# EAGLE library part TPS54386 (library alvie)
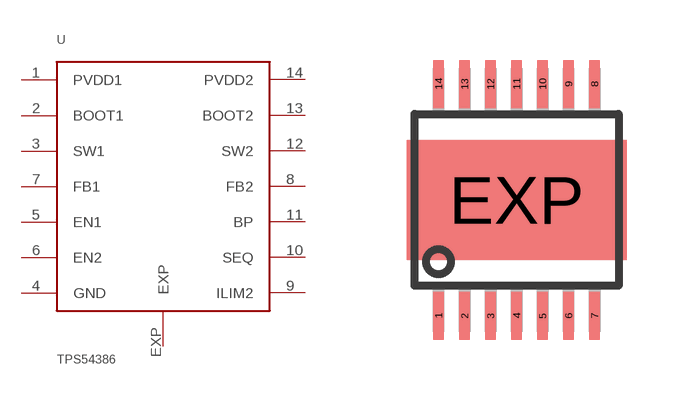
[diagram p45: symbol with the pads of HTSSOP14-PWP; footprint HTSSOP14-PWP]

Designator prefix -

## TPS54386  [HTSSOP14-PWP]
1  PVDD1  pwr
2  BOOT1  pas
3  SW1  pas
4  GND  pwr
5  EN1  in
6  EN2  in
7  FB1  pas
8  FB2  pas
9  ILIM2  pas
10  SEQ  pas
11  BP  pas
12  SW2  pas
13  BOOT2  pas
14  PVDD2  pwr
EXP  EXP  pwr

## Footprint HTSSOP14-PWP (pad centres in mm)
smd 0.27 x 1.2: 1 -1.95,-2.9; 2 -1.3,-2.9; 3 -0.65,-2.9; 4 0,-2.9; 5 0.65,-2.9; 6 1.3,-2.9; 7 1.95,-2.9; 8 1.95,2.9; 9 1.3,2.9; 10 0.65,2.9; 11 0,2.9; 12 -0.65,2.9; 13 -1.3,2.9; 14 -1.95,2.9
smd 5.5 x 3: EXP 0,0